# Altium schematic symbol library WE-PPTI.SchLib: 100 symbols (part 1 of 2)
Pins are listed as number, name and electrical type; pins without a type are passive.

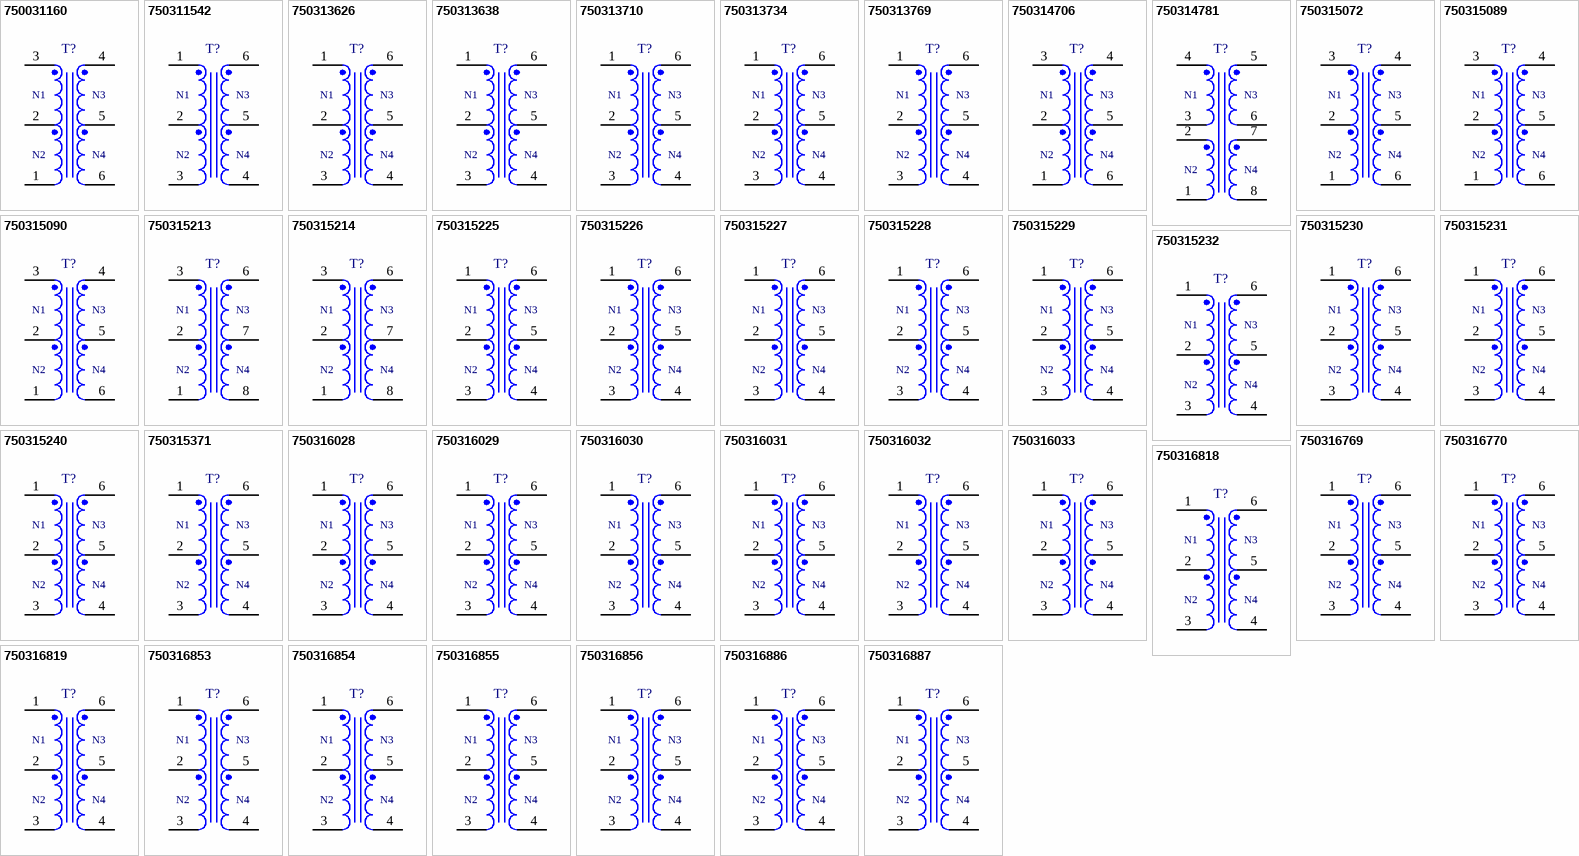
[diagram p0: symbols 750031160 to 750316887]

## 750031160
designator T?  (value not drawn)
WE-PPTI Push-Pull Transformer, SMT, size EE5, 5Vin, 12Vout, 0.35Aout; Manufacturer: Wurth Elektronik; Inductance: 500uH; Input Voltage: 5V (DC); Insulation Test Voltage: 1000V (AC); Output Voltage: 12V (DC); Switching Frequency: 100 - 500kHz; Turns Ratio: 1:2.7; Output Current: 0.35A; Type of Insulation: Functional; Voltage-Time: 9Vus; Manufacturer Part Number: 750031160; Category: Transformers For DC-DC Converter; Match Code: WE-PPTI; ComponentLink1Description: Website Link; ComponentLink1URL: https://www.we-online.com; ComponentLink2Description: Datasheet Link; ComponentLink2URL: https://www.we-online.com/components/products/datasheet/750031160; Mount: Surface Mount; Operating Temperature Min: -40degC; Operating Temperature Max: 125degC; Packaging: Tape and Reel; Case/Size Code: EE5; Length: 8.76mm; Width: 6.1mm; Height: 6.35mm
footprint WE-PPTI_EE5
pins: 1, 2, 3, 4, 5, 6
text: N1; N3; N2; N4

## 750311542
designator T?  (value not drawn)
WE-PPTI Push-Pull Transformer, SMT, size EP5, 5Vin, 12Vout, 0.45Aout; Manufacturer: Wurth Elektronik; Inductance: 500uH; Input Voltage: 5V (DC); Insulation Test Voltage: 1000V (AC); Output Voltage: 12V (DC); Switching Frequency: 100 - 500kHz; Turns Ratio: 1:2.73; Output Current: 0.45A; Type of Insulation: Functional; Voltage-Time: 9Vus; Manufacturer Part Number: 750311542; Category: Transformers For DC-DC Converter; Match Code: WE-PPTI; ComponentLink1Description: Website Link; ComponentLink1URL: https://www.we-online.com; ComponentLink2Description: Datasheet Link; ComponentLink2URL: https://www.we-online.com/components/products/datasheet/750311542; Mount: Surface Mount; Operating Temperature Min: -40degC; Operating Temperature Max: 125degC; Packaging: Tape and Reel; Case/Size Code: EP5; Length: 8.26mm; Width: 6.6mm; Height: 5.59mm
footprint WE-PPTI_EP5_L8.26W6.6H5.59
pins: 1, 2, 3, 4, 5, 6
text: N1; N3; N2; N4

## 750313626
designator T?  (value not drawn)
WE-PPTI Push-Pull Transformer, SMT, size 1209, 3.3Vin, 5Vout, 0.5Aout; Manufacturer: Wurth Elektronik; Case/Size Code: 1209; Inductance: 340uH; Input Voltage: 3.3V (DC); Insulation Test Voltage: 5000V (AC); Output Voltage: 5V (DC); Switching Frequency: 250 - 550kHz; Turns Ratio: 1:2; Output Current: 0.5A; Type of Insulation: Reinforced; Voltage-Time: 10Vus; Manufacturer Part Number: 750313626; Category: Transformers For DC-DC Converter; Match Code: WE-PPTI; ComponentLink1Description: Website Link; ComponentLink1URL: https://www.we-online.com; ComponentLink2Description: Datasheet Link; ComponentLink2URL: https://www.we-online.com/components/products/datasheet/750313626; Mount: Surface Mount; Operating Temperature Min: -40degC; Operating Temperature Max: 125degC; Packaging: Tape and Reel; Length: 12.7mm; Width: 9.14mm; Height: 7.62mm
footprint WE-PPTI_1209
pins: 1, 2, 3, 4, 5, 6
text: N1; N3; N2; N4

## 750313638
designator T?  (value not drawn)
WE-PPTI Push-Pull Transformer, SMT, size 1209, 5Vin, 5Vout, 0.65Aout; Manufacturer: Wurth Elektronik; Case/Size Code: 1209; Inductance: 340uH; Input Voltage: 5V (DC); Insulation Test Voltage: 5000V (AC); Switching Frequency: 300 - 620kHz; Turns Ratio: 1:1.3; Output Current: 0.65A; Type of Insulation: Reinforced; Voltage-Time: 10Vus; Manufacturer Part Number: 750313638; Category: Transformers For DC-DC Converter; Match Code: WE-PPTI; ComponentLink1Description: Website Link; ComponentLink1URL: https://www.we-online.com; ComponentLink2Description: Datasheet Link; ComponentLink2URL: https://www.we-online.com/components/products/datasheet/750313638; Mount: Surface Mount; Operating Temperature Min: -40degC; Operating Temperature Max: 125degC; Packaging: Tape and Reel; Length: 12.7mm; Width: 9.14mm; Height: 7.62mm; Output Voltage: 5V (DC)
footprint WE-PPTI_1209
pins: 1, 2, 3, 4, 5, 6
text: N1; N3; N2; N4

## 750313710
designator T?  (value not drawn)
WE-PPTI Push-Pull Transformer, SMT, size 1006, 5Vin, 3.3Vout, 0.65Aout; Manufacturer: Wurth Elektronik; Case/Size Code: 1006; Inductance: 475uH; Input Voltage: 5V (DC); Insulation Test Voltage: 2500V (AC); Output Voltage: 3.3V (DC); Switching Frequency: 250 - 620kHz; Turns Ratio: 1:1.23; Output Current: 0.65A; Type of Insulation: Functional; Voltage-Time: 11Vus; Manufacturer Part Number: 750313710; Category: Transformers For DC-DC Converter; Match Code: WE-PPTI; ComponentLink1Description: Website Link; ComponentLink1URL: https://www.we-online.com; ComponentLink2Description: Datasheet Link; ComponentLink2URL: https://www.we-online.com/components/products/datasheet/750313710; Mount: Surface Mount; Operating Temperature Min: -40degC; Operating Temperature Max: 125degC; Packaging: Tape and Reel; Length: 10.2mm; Width: 6.73mm; Height: 4.19mm
footprint WE-PPTI_1006_L10.2W6.73H4.19
pins: 1, 2, 3, 4, 5, 6
text: N1; N3; N2; N4

## 750313734
designator T?  (value not drawn)
WE-PPTI Push-Pull Transformer, SMT, size 1209, 5Vin, 5Vout, 0.8Aout; Manufacturer: Wurth Elektronik; Case/Size Code: 1209; Inductance: 340uH; Input Voltage: 5V (DC); Insulation Test Voltage: 5000V (AC); Switching Frequency: 300 - 620kHz; Turns Ratio: 1:1.1; Output Current: 0.8A; Type of Insulation: Reinforced; Voltage-Time: 10Vus; Manufacturer Part Number: 750313734; Category: Transformers For DC-DC Converter; Match Code: WE-PPTI; ComponentLink1Description: Website Link; ComponentLink1URL: https://www.we-online.com; ComponentLink2Description: Datasheet Link; ComponentLink2URL: https://www.we-online.com/components/products/datasheet/750313734; Mount: Surface Mount; Operating Temperature Min: -40degC; Operating Temperature Max: 125degC; Packaging: Tape and Reel; Length: 12.7mm; Width: 9.14mm; Height: 7.62mm; Output Voltage: 5V (DC)
footprint WE-PPTI_1209
pins: 1, 2, 3, 4, 5, 6
text: N1; N3; N2; N4

## 750313769
designator T?  (value not drawn)
WE-PPTI Push-Pull Transformer, SMT, size 1209, 3.3Vin, 5Vout, 0.6Aout; Manufacturer: Wurth Elektronik; Case/Size Code: 1209; Inductance: 340uH; Input Voltage: 3.3V (DC); Insulation Test Voltage: 5000V (AC); Output Voltage: 5V (DC); Switching Frequency: 250 - 550kHz; Turns Ratio: 1:1.7; Output Current: 0.6A; Type of Insulation: Reinforced; Voltage-Time: 10Vus; Manufacturer Part Number: 750313769; Category: Transformers For DC-DC Converter; Match Code: WE-PPTI; ComponentLink1Description: Website Link; ComponentLink1URL: https://www.we-online.com; ComponentLink2Description: Datasheet Link; ComponentLink2URL: https://www.we-online.com/components/products/datasheet/750313769; Mount: Surface Mount; Operating Temperature Min: -40degC; Operating Temperature Max: 125degC; Packaging: Tape and Reel; Length: 12.7mm; Width: 9.14mm; Height: 7.62mm
footprint WE-PPTI_1209
pins: 1, 2, 3, 4, 5, 6
text: N1; N3; N2; N4

## 750314706
designator T?  (value not drawn)
WE-PPTI Push-Pull Transformer, SMT, size EP5, 3.3Vin, 5Vout, 0.3Aout; Manufacturer: Wurth Elektronik; Inductance: 250uH; Input Voltage: 3.3V (DC); Insulation Test Voltage: 2500V (AC); Output Voltage: 5V (DC); Switching Frequency: 100 - 500kHz; Turns Ratio: 1:1.8; Output Current: 0.3A; Type of Insulation: Functional; Voltage-Time: 27Vus; Manufacturer Part Number: 750314706; Category: Transformers For DC-DC Converter; Match Code: WE-PPTI; ComponentLink1Description: Website Link; ComponentLink1URL: https://www.we-online.com; ComponentLink2Description: Datasheet Link; ComponentLink2URL: https://www.we-online.com/components/products/datasheet/750314706; Mount: Surface Mount; Operating Temperature Min: -40degC; Operating Temperature Max: 125degC; Packaging: Tape and Reel; Case/Size Code: EP5; Length: 9.1mm; Width: 7mm; Height: 7.8mm
footprint WE-PPTI_EP5_L9.1W7H7.8
pins: 1, 2, 3, 4, 5, 6
text: N1; N3; N2; N4

## 750314781
designator T?  (value not drawn)
WE-PPTI Push-Pull Transformer, SMT, size EP7, 10 - 15Vin, 12Vout, 0.5Aout; Manufacturer: Wurth Elektronik; Inductance: 160uH; Input Voltage: 10 - 15V (DC); Insulation Test Voltage: 1000V (AC); Output Voltage: 12V (DC); Switching Frequency: 1000 - 1500kHz; Turns Ratio: 1:2; Output Current: 0.5A; Type of Insulation: Functional; Voltage-Time: 68Vus; Manufacturer Part Number: 750314781; Category: Transformers For DC-DC Converter; Match Code: WE-PPTI; ComponentLink1Description: Website Link; ComponentLink1URL: https://www.we-online.com; ComponentLink2Description: Datasheet Link; ComponentLink2URL: https://www.we-online.com/components/products/datasheet/750314781; Mount: Surface Mount; Operating Temperature Min: -40degC; Operating Temperature Max: 125degC; Packaging: Tape and Reel; Case/Size Code: EP7; Length: 9.14mm; Width: 9.78mm; Height: 10.54mm
footprint WE-PPTI_EP7
pins: 1, 2, 3, 4, 5, 6, 7, 8
text: N1; N3; N2; N4

## 750315072
designator T?  (value not drawn)
WE-PPTI Push-Pull Transformer, SMT, size EP5, 5Vin, 3.3Vout, 0.6Aout; Manufacturer: Wurth Elektronik; Inductance: 635uH; Input Voltage: 5V (DC); Insulation Test Voltage: 2500V (AC); Output Voltage: 3.3V (DC); Switching Frequency: 100 - 500kHz; Turns Ratio: 1.53:1; Output Current: 0.6A; Type of Insulation: Functional; Voltage-Time: 42Vus; Manufacturer Part Number: 750315072; Category: Transformers For DC-DC Converter; Match Code: WE-PPTI; ComponentLink1Description: Website Link; ComponentLink1URL: https://www.we-online.com; ComponentLink2Description: Datasheet Link; ComponentLink2URL: https://www.we-online.com/components/products/datasheet/750315072; Mount: Surface Mount; Operating Temperature Min: -40degC; Operating Temperature Max: 125degC; Packaging: Tape and Reel; Case/Size Code: EP5; Length: 9.1mm; Width: 7mm; Height: 7.8mm
footprint WE-PPTI_EP5_L9.1W7H7.8
pins: 1, 2, 3, 4, 5, 6
text: N1; N3; N2; N4

## 750315089
designator T?  (value not drawn)
WE-PPTI Push-Pull Transformer, SMT, size EP5, 5Vin, 5Vout, 0.33Aout; Manufacturer: Wurth Elektronik; Inductance: 635uH; Input Voltage: 5V (DC); Insulation Test Voltage: 2500V (AC); Switching Frequency: 100 - 500kHz; Turns Ratio: 1:1; Output Current: 0.33A; Type of Insulation: Functional; Voltage-Time: 42Vus; Manufacturer Part Number: 750315089; Category: Transformers For DC-DC Converter; Match Code: WE-PPTI; ComponentLink1Description: Website Link; ComponentLink1URL: https://www.we-online.com; ComponentLink2Description: Datasheet Link; ComponentLink2URL: https://www.we-online.com/components/products/datasheet/750315089; Mount: Surface Mount; Operating Temperature Min: -40degC; Operating Temperature Max: 125degC; Packaging: Tape and Reel; Case/Size Code: EP5; Length: 9.1mm; Width: 7mm; Height: 7.8mm; Output Voltage: 5V (DC)
footprint WE-PPTI_EP5_L9.1W7H7.8
pins: 1, 2, 3, 4, 5, 6
text: N1; N3; N2; N4

## 750315090
designator T?  (value not drawn)
WE-PPTI Push-Pull Transformer, SMT, size EP5, 3.3Vin, 3.3Vout, 0.6Aout; Manufacturer: Wurth Elektronik; Inductance: 270uH; Input Voltage: 3.3V (DC); Insulation Test Voltage: 2500V (AC); Switching Frequency: 100 - 500kHz; Turns Ratio: 1:1; Output Current: 0.6A; Type of Insulation: Functional; Voltage-Time: 27Vus; Manufacturer Part Number: 750315090; Category: Transformers For DC-DC Converter; Match Code: WE-PPTI; ComponentLink1Description: Website Link; ComponentLink1URL: https://www.we-online.com; ComponentLink2Description: Datasheet Link; ComponentLink2URL: https://www.we-online.com/components/products/datasheet/750315090; Mount: Surface Mount; Operating Temperature Min: -40degC; Operating Temperature Max: 125degC; Packaging: Tape and Reel; Case/Size Code: EP5; Length: 9.1mm; Width: 7mm; Height: 7.8mm; Output Voltage: 3.3V (DC)
footprint WE-PPTI_EP5_L9.1W7H7.8
pins: 1, 2, 3, 4, 5, 6
text: N1; N3; N2; N4

## 750315213
designator T?  (value not drawn)
WE-PPTI Push-Pull Transformer, SMT, size EP7, 24Vin, 24Vout, 0.6Aout; Manufacturer: Wurth Elektronik; Inductance: 563uH; Input Voltage: 24V (DC); Insulation Test Voltage: 3125V (AC); Switching Frequency: 150 - 500kHz; Turns Ratio: 1:1; Output Current: 0.6A; Type of Insulation: Functional; Voltage-Time: 100Vus; Manufacturer Part Number: 750315213; Category: Transformers For DC-DC Converter; Match Code: WE-PPTI; ComponentLink1Description: Website Link; ComponentLink1URL: https://www.we-online.com; ComponentLink2Description: Datasheet Link; ComponentLink2URL: https://www.we-online.com/components/products/datasheet/750315213; Mount: Surface Mount; Operating Temperature Min: -40degC; Operating Temperature Max: 125degC; Packaging: Tape and Reel; Case/Size Code: EP7; Length: 9.14mm; Width: 9.78mm; Height: 10.54mm; Output Voltage: 24V (DC)
footprint WE-PPTI_EP7
pins: 1, 2, 3, 6, 7, 8
text: N1; N3; N2; N4

## 750315214
designator T?  (value not drawn)
WE-PPTI Push-Pull Transformer, SMT, size EP7, 24Vin, 5Vout, 2Aout; Manufacturer: Wurth Elektronik; Inductance: 563uH; Input Voltage: 24V (DC); Insulation Test Voltage: 3125V (AC); Output Voltage: 5V (DC); Switching Frequency: 150 - 500kHz; Turns Ratio: 4:1; Output Current: 2A; Type of Insulation: Functional; Voltage-Time: 100Vus; Manufacturer Part Number: 750315214; Category: Transformers For DC-DC Converter; Match Code: WE-PPTI; ComponentLink1Description: Website Link; ComponentLink1URL: https://www.we-online.com; ComponentLink2Description: Datasheet Link; ComponentLink2URL: https://www.we-online.com/components/products/datasheet/750315214; Mount: Surface Mount; Operating Temperature Min: -40degC; Operating Temperature Max: 125degC; Packaging: Tape and Reel; Case/Size Code: EP7; Length: 9.14mm; Width: 9.78mm; Height: 10.54mm
footprint WE-PPTI_EP7
pins: 1, 2, 3, 6, 7, 8
text: N1; N3; N2; N4

## 750315225
designator T?  (value not drawn)
WE-PPTI Push-Pull Transformer, SMT, size 1006, 3.3Vin, 3.6Vout, 0.9Aout; Manufacturer: Wurth Elektronik; Case/Size Code: 1006; Inductance: 388uH; Input Voltage: 3.3V (DC); Insulation Test Voltage: 2750V (AC); Output Voltage: 3.6V (DC); Switching Frequency: 350 - 550kHz; Turns Ratio: 1:1.1; Output Current: 0.9A; Type of Insulation: Functional; Voltage-Time: 8.5Vus; Manufacturer Part Number: 750315225; Category: Transformers For DC-DC Converter; Match Code: WE-PPTI; ComponentLink1Description: Website Link; ComponentLink1URL: https://www.we-online.com; ComponentLink2Description: Datasheet Link; ComponentLink2URL: https://www.we-online.com/components/products/datasheet/750315225; Mount: Surface Mount; Operating Temperature Min: -40degC; Operating Temperature Max: 125degC; Packaging: Tape and Reel; Length: 10.2mm; Width: 6.73mm; Height: 4.19mm
footprint WE-PPTI_1006_L10.2W6.73H4.19
pins: 1, 2, 3, 4, 5, 6
text: N1; N3; N2; N4

## 750315226
designator T?  (value not drawn)
WE-PPTI Push-Pull Transformer, SMT, size 1006, 3.3Vin, 4.3Vout, 0.85Aout; Manufacturer: Wurth Elektronik; Case/Size Code: 1006; Inductance: 388uH; Input Voltage: 3.3V (DC); Insulation Test Voltage: 2750V (AC); Output Voltage: 4.3V (DC); Switching Frequency: 350 - 550kHz; Turns Ratio: 1:1.3; Output Current: 0.85A; Type of Insulation: Functional; Voltage-Time: 8.5Vus; Manufacturer Part Number: 750315226; Category: Transformers For DC-DC Converter; Match Code: WE-PPTI; ComponentLink1Description: Website Link; ComponentLink1URL: https://www.we-online.com; ComponentLink2Description: Datasheet Link; ComponentLink2URL: https://www.we-online.com/components/products/datasheet/750315226; Mount: Surface Mount; Operating Temperature Min: -40degC; Operating Temperature Max: 125degC; Packaging: Tape and Reel; Length: 10.2mm; Width: 6.73mm; Height: 4.19mm
footprint WE-PPTI_1006_L10.2W6.73H4.19
pins: 1, 2, 3, 4, 5, 6
text: N1; N3; N2; N4

## 750315227
designator T?  (value not drawn)
WE-PPTI Push-Pull Transformer, SMT, size 1006, 3.3Vin, 5.6Vout, 0.7Aout; Manufacturer: Wurth Elektronik; Case/Size Code: 1006; Inductance: 388uH; Input Voltage: 3.3V (DC); Insulation Test Voltage: 2750V (AC); Output Voltage: 5.6V (DC); Switching Frequency: 350 - 550kHz; Turns Ratio: 1:1.7; Output Current: 0.7A; Type of Insulation: Functional; Voltage-Time: 8.5Vus; Manufacturer Part Number: 750315227; Category: Transformers For DC-DC Converter; Match Code: WE-PPTI; ComponentLink1Description: Website Link; ComponentLink1URL: https://www.we-online.com; ComponentLink2Description: Datasheet Link; ComponentLink2URL: https://www.we-online.com/components/products/datasheet/750315227; Mount: Surface Mount; Operating Temperature Min: -40degC; Operating Temperature Max: 125degC; Packaging: Tape and Reel; Length: 10.2mm; Width: 6.73mm; Height: 4.19mm
footprint WE-PPTI_1006_L10.2W6.73H4.19
pins: 1, 2, 3, 4, 5, 6
text: N1; N3; N2; N4

## 750315228
designator T?  (value not drawn)
WE-PPTI Push-Pull Transformer, SMT, size 1006, 3.3Vin, 6.6Vout, 0.5Aout; Manufacturer: Wurth Elektronik; Case/Size Code: 1006; Inductance: 388uH; Input Voltage: 3.3V (DC); Insulation Test Voltage: 2750V (AC); Output Voltage: 6.6V (DC); Switching Frequency: 350 - 550kHz; Turns Ratio: 1:2; Output Current: 0.5A; Type of Insulation: Functional; Voltage-Time: 8.5Vus; Manufacturer Part Number: 750315228; Category: Transformers For DC-DC Converter; Match Code: WE-PPTI; ComponentLink1Description: Website Link; ComponentLink1URL: https://www.we-online.com; ComponentLink2Description: Datasheet Link; ComponentLink2URL: https://www.we-online.com/components/products/datasheet/750315228; Mount: Surface Mount; Operating Temperature Min: -40degC; Operating Temperature Max: 125degC; Packaging: Tape and Reel; Length: 10.2mm; Width: 6.73mm; Height: 4.19mm
footprint WE-PPTI_1006_L10.2W6.73H4.19
pins: 1, 2, 3, 4, 5, 6
text: N1; N3; N2; N4

## 750315229
designator T?  (value not drawn)
WE-PPTI Push-Pull Transformer, SMT, size 1209, 5Vin, 5.8Vout, 0.9Aout; Manufacturer: Wurth Elektronik; Case/Size Code: 1209; Inductance: 384uH; Input Voltage: 5V (DC); Insulation Test Voltage: 5000V (AC); Output Voltage: 5.8V (DC); Switching Frequency: 350 - 550kHz; Turns Ratio: 1:1.1; Output Current: 0.9A; Type of Insulation: Reinforced; Voltage-Time: 8.8Vus; Manufacturer Part Number: 750315229; Category: Transformers For DC-DC Converter; Match Code: WE-PPTI; ComponentLink1Description: Website Link; ComponentLink1URL: https://www.we-online.com; ComponentLink2Description: Datasheet Link; ComponentLink2URL: https://www.we-online.com/components/products/datasheet/750315229; Mount: Surface Mount; Operating Temperature Min: -40degC; Operating Temperature Max: 125degC; Packaging: Tape and Reel; Length: 12.7mm; Width: 9.14mm; Height: 7.62mm
footprint WE-PPTI_1209
pins: 1, 2, 3, 4, 5, 6
text: N1; N3; N2; N4

## 750315230
designator T?  (value not drawn)
WE-PPTI Push-Pull Transformer, SMT, size 1209, 5Vin, 6.9Vout, 0.75Aout; Manufacturer: Wurth Elektronik; Case/Size Code: 1209; Inductance: 384uH; Input Voltage: 5V (DC); Insulation Test Voltage: 5000V (AC); Output Voltage: 6.9V (DC); Switching Frequency: 350 - 550kHz; Turns Ratio: 1:1.4; Output Current: 0.75A; Type of Insulation: Reinforced; Voltage-Time: 8.8Vus; Manufacturer Part Number: 750315230; Category: Transformers For DC-DC Converter; Match Code: WE-PPTI; ComponentLink1Description: Website Link; ComponentLink1URL: https://www.we-online.com; ComponentLink2Description: Datasheet Link; ComponentLink2URL: https://www.we-online.com/components/products/datasheet/750315230; Mount: Surface Mount; Operating Temperature Min: -40degC; Operating Temperature Max: 125degC; Packaging: Tape and Reel; Length: 12.7mm; Width: 9.14mm; Height: 7.62mm
footprint WE-PPTI_1209
pins: 1, 2, 3, 4, 5, 6
text: N1; N3; N2; N4

## 750315231
designator T?  (value not drawn)
WE-PPTI Push-Pull Transformer, SMT, size 1209, 3.3Vin, 5.4Vout, 0.55Aout; Manufacturer: Wurth Elektronik; Case/Size Code: 1209; Inductance: 384uH; Input Voltage: 3.3V (DC); Insulation Test Voltage: 5000V (AC); Output Voltage: 5.4V (DC); Switching Frequency: 350 - 550kHz; Turns Ratio: 1:1.6; Output Current: 0.55A; Type of Insulation: Reinforced; Voltage-Time: 8.8Vus; Manufacturer Part Number: 750315231; Category: Transformers For DC-DC Converter; Match Code: WE-PPTI; ComponentLink1Description: Website Link; ComponentLink1URL: https://www.we-online.com; ComponentLink2Description: Datasheet Link; ComponentLink2URL: https://www.we-online.com/components/products/datasheet/750315231; Mount: Surface Mount; Operating Temperature Min: -40degC; Operating Temperature Max: 125degC; Packaging: Tape and Reel; Length: 12.7mm; Width: 9.14mm; Height: 7.62mm
footprint WE-PPTI_1209
pins: 1, 2, 3, 4, 5, 6
text: N1; N3; N2; N4

## 750315232
designator T?  (value not drawn)
WE-PPTI Push-Pull Transformer, SMT, size 1209, 3.3Vin, 6.6Vout, 0.45Aout; Manufacturer: Wurth Elektronik; Case/Size Code: 1209; Inductance: 384uH; Input Voltage: 3.3V (DC); Insulation Test Voltage: 5000V (AC); Output Voltage: 6.6V (DC); Switching Frequency: 350 - 550kHz; Turns Ratio: 1:2; Output Current: 0.45A; Type of Insulation: Reinforced; Voltage-Time: 8.8Vus; Manufacturer Part Number: 750315232; Category: Transformers For DC-DC Converter; Match Code: WE-PPTI; ComponentLink1Description: Website Link; ComponentLink1URL: https://www.we-online.com; ComponentLink2Description: Datasheet Link; ComponentLink2URL: https://www.we-online.com/components/products/datasheet/750315232; Mount: Surface Mount; Operating Temperature Min: -40degC; Operating Temperature Max: 125degC; Packaging: Tape and Reel; Length: 12.7mm; Width: 9.14mm; Height: 7.62mm
footprint WE-PPTI_1209
pins: 1, 2, 3, 4, 5, 6
text: N1; N3; N2; N4

## 750315240
designator T?  (value not drawn)
WE-PPTI Push-Pull Transformer, SMT, size 1512, 5Vin, 5Vout, 1Aout; Manufacturer: Wurth Elektronik; Case/Size Code: 1512; Inductance: 440uH; Input Voltage: 5V (DC); Insulation Test Voltage: 5000V (AC); Switching Frequency: 150 - 800kHz; Turns Ratio: 1:1.1; Output Current: 1A; Type of Insulation: Reinforced; Voltage-Time: 46Vus; Manufacturer Part Number: 750315240; Category: Transformers For DC-DC Converter; Match Code: WE-PPTI; ComponentLink1Description: Website Link; ComponentLink1URL: https://www.we-online.com; ComponentLink2Description: Datasheet Link; ComponentLink2URL: https://www.we-online.com/components/products/datasheet/750315240; Mount: Surface Mount; Operating Temperature Min: -40degC; Operating Temperature Max: 125degC; Packaging: Tape and Reel; Length: 15.41mm; Width: 12.32mm; Height: 11.89mm; Output Voltage: 5V (DC)
footprint WE-PPTI_1512
pins: 1, 2, 3, 4, 5, 6
text: N1; N3; N2; N4

## 750315371
designator T?  (value not drawn)
WE-PPTI Push-Pull Transformer, SMT, size 1208, 4.5 - 5.5Vin, 5Vout, 1Aout; Manufacturer: Wurth Elektronik; Case/Size Code: 1208; Inductance: 72uH; Input Voltage: 4.5 - 5.5V (DC); Insulation Test Voltage: 2500V (AC); Output Voltage: 5V (DC); Switching Frequency: 400 - 700kHz; Turns Ratio: 1:1.1; Output Current: 1A; Type of Insulation: Functional; Voltage-Time: 8.6Vus; Manufacturer Part Number: 750315371; Category: Transformers For DC-DC Converter; Match Code: WE-PPTI; ComponentLink1Description: Website Link; ComponentLink1URL: https://www.we-online.com; ComponentLink2Description: Datasheet Link; ComponentLink2URL: https://www.we-online.com/components/products/datasheet/750315371; Mount: Surface Mount; Operating Temperature Min: -40degC; Operating Temperature Max: 125degC; Packaging: Tape and Reel; Length: 12.6mm; Width: 8.3mm; Height: 4.1mm
footprint WE-PPTI_1208
pins: 1, 2, 3, 4, 5, 6
text: N1; N3; N2; N4

## 750316028
designator T?  (value not drawn)
WE-PPTI Push-Pull Transformer, SMT, size 1208, 3.3Vin, 3.3Vout, 0.8Aout; Manufacturer: Wurth Elektronik; Case/Size Code: 1208; Inductance: 86uH; Input Voltage: 3.3V (DC); Insulation Test Voltage: 2500V (AC); Switching Frequency: 400 - 700kHz; Turns Ratio: 1:1.75; Output Current: 0.8A; Type of Insulation: Functional; Voltage-Time: 13Vus; Manufacturer Part Number: 750316028; Category: Transformers For DC-DC Converter; Match Code: WE-PPTI; ComponentLink1Description: Website Link; ComponentLink1URL: https://www.we-online.com; ComponentLink2Description: Datasheet Link; ComponentLink2URL: https://www.we-online.com/components/products/datasheet/750316028; Mount: Surface Mount; Operating Temperature Min: -40degC; Operating Temperature Max: 125degC; Packaging: Tape and Reel; Length: 12.6mm; Width: 8.3mm; Height: 4.1mm; Output Voltage: 3.3V (DC)
footprint WE-PPTI_1208
pins: 1, 2, 3, 4, 5, 6
text: N1; N3; N2; N4

## 750316029
designator T?  (value not drawn)
WE-PPTI Push-Pull Transformer, SMT, size 1208, 3.3Vin, 5Vout, 0.6Aout; Manufacturer: Wurth Elektronik; Case/Size Code: 1208; Inductance: 72uH; Input Voltage: 3.3V (DC); Insulation Test Voltage: 2500V (AC); Output Voltage: 5V (DC); Switching Frequency: 400 - 700kHz; Turns Ratio: 1:2.1; Output Current: 0.6A; Type of Insulation: Functional; Voltage-Time: 8.9Vus; Manufacturer Part Number: 750316029; Category: Transformers For DC-DC Converter; Match Code: WE-PPTI; ComponentLink1Description: Website Link; ComponentLink1URL: https://www.we-online.com; ComponentLink2Description: Datasheet Link; ComponentLink2URL: https://www.we-online.com/components/products/datasheet/750316029; Mount: Surface Mount; Operating Temperature Min: -40degC; Operating Temperature Max: 125degC; Packaging: Tape and Reel; Length: 12.6mm; Width: 8.3mm; Height: 4.1mm
footprint WE-PPTI_1208
pins: 1, 2, 3, 4, 5, 6
text: N1; N3; N2; N4

## 750316030
designator T?  (value not drawn)
WE-PPTI Push-Pull Transformer, SMT, size 1208, 4.5 - 5.5Vin, 3.3Vout, 1.2Aout; Manufacturer: Wurth Elektronik; Case/Size Code: 1208; Inductance: 94uH; Input Voltage: 4.5 - 5.5V (DC); Insulation Test Voltage: 2500V (AC); Output Voltage: 3.3V (DC); Switching Frequency: 400 - 700kHz; Turns Ratio: 1.3:1; Output Current: 1.2A; Type of Insulation: Functional; Voltage-Time: 10.2Vus; Manufacturer Part Number: 750316030; Category: Transformers For DC-DC Converter; Match Code: WE-PPTI; ComponentLink1Description: Website Link; ComponentLink1URL: https://www.we-online.com; ComponentLink2Description: Datasheet Link; ComponentLink2URL: https://www.we-online.com/components/products/datasheet/750316030; Mount: Surface Mount; Operating Temperature Min: -40degC; Operating Temperature Max: 125degC; Packaging: Tape and Reel; Length: 12.6mm; Width: 8.3mm; Height: 4.1mm
footprint WE-PPTI_1208
pins: 1, 2, 3, 4, 5, 6
text: N1; N3; N2; N4

## 750316031
designator T?  (value not drawn)
WE-PPTI Push-Pull Transformer, SMT, size 1512, 3.3Vin, 3.3Vout, 0.9Aout; Manufacturer: Wurth Elektronik; Case/Size Code: 1512; Inductance: 370uH; Input Voltage: 3.3V (DC); Insulation Test Voltage: 5000V (AC); Switching Frequency: 150 - 700kHz; Turns Ratio: 1:1.75; Output Current: 0.9A; Type of Insulation: Reinforced; Voltage-Time: 40Vus; Manufacturer Part Number: 750316031; Category: Transformers For DC-DC Converter; Match Code: WE-PPTI; ComponentLink1Description: Website Link; ComponentLink1URL: https://www.we-online.com; ComponentLink2Description: Datasheet Link; ComponentLink2URL: https://www.we-online.com/components/products/datasheet/750316031; Mount: Surface Mount; Operating Temperature Min: -40degC; Operating Temperature Max: 125degC; Packaging: Tape and Reel; Length: 15.41mm; Width: 12.32mm; Height: 11.89mm; Output Voltage: 3.3V (DC)
footprint WE-PPTI_1512
pins: 1, 2, 3, 4, 5, 6
text: N1; N3; N2; N4

## 750316032
designator T?  (value not drawn)
WE-PPTI Push-Pull Transformer, SMT, size 1512, 3.3Vin, 5Vout, 0.9Aout; Manufacturer: Wurth Elektronik; Case/Size Code: 1512; Inductance: 370uH; Input Voltage: 3.3V (DC); Insulation Test Voltage: 5000V (AC); Output Voltage: 5V (DC); Switching Frequency: 150 - 700kHz; Turns Ratio: 1:2; Output Current: 0.9A; Type of Insulation: Reinforced; Voltage-Time: 40Vus; Manufacturer Part Number: 750316032; Category: Transformers For DC-DC Converter; Match Code: WE-PPTI; ComponentLink1Description: Website Link; ComponentLink1URL: https://www.we-online.com; ComponentLink2Description: Datasheet Link; ComponentLink2URL: https://www.we-online.com/components/products/datasheet/750316032; Mount: Surface Mount; Operating Temperature Min: -40degC; Operating Temperature Max: 125degC; Packaging: Tape and Reel; Length: 15.41mm; Width: 12.32mm; Height: 11.89mm
footprint WE-PPTI_1512
pins: 1, 2, 3, 4, 5, 6
text: N1; N3; N2; N4

## 750316033
designator T?  (value not drawn)
WE-PPTI Push-Pull Transformer, SMT, size 1512, 4.5 - 5Vin, 3.3Vout, 1Aout; Manufacturer: Wurth Elektronik; Case/Size Code: 1512; Inductance: 370uH; Input Voltage: 4.5 - 5V (DC); Insulation Test Voltage: 5000V (AC); Output Voltage: 3.3V (DC); Switching Frequency: 150 - 800kHz; Turns Ratio: 1.3:1; Output Current: 1A; Type of Insulation: Reinforced; Voltage-Time: 40Vus; Manufacturer Part Number: 750316033; Category: Transformers For DC-DC Converter; Match Code: WE-PPTI; ComponentLink1Description: Website Link; ComponentLink1URL: https://www.we-online.com; ComponentLink2Description: Datasheet Link; ComponentLink2URL: https://www.we-online.com/components/products/datasheet/750316033; Mount: Surface Mount; Operating Temperature Min: -40degC; Operating Temperature Max: 125degC; Packaging: Tape and Reel; Length: 15.41mm; Width: 12.32mm; Height: 11.89mm
footprint WE-PPTI_1512
pins: 1, 2, 3, 4, 5, 6
text: N1; N3; N2; N4

## 750316769
designator T?  (value not drawn)
WE-PPTI Push-Pull Transformer, SMT, size 1006, 5Vin, 15Vout, 0.25Aout; Manufacturer: Wurth Elektronik; Case/Size Code: 1006; Inductance: 350uH; Input Voltage: 5V (DC); Insulation Test Voltage: 2500V (AC); Output Voltage: 15V (DC); Switching Frequency: 300 - 620kHz; Turns Ratio: 1:3.45; Output Current: 0.25A; Type of Insulation: Functional; Voltage-Time: 9Vus; Manufacturer Part Number: 750316769; Category: Transformers For DC-DC Converter; Match Code: WE-PPTI; ComponentLink1Description: Website Link; ComponentLink1URL: https://www.we-online.com; ComponentLink2Description: Datasheet Link; ComponentLink2URL: https://www.we-online.com/components/products/datasheet/750316769; Mount: Surface Mount; Operating Temperature Min: -40degC; Operating Temperature Max: 125degC; Packaging: Tape and Reel; Length: 10.2mm; Width: 6.73mm; Height: 4.19mm
footprint WE-PPTI_1006_L10.2W6.73H4.19
pins: 1, 2, 3, 4, 5, 6
text: N1; N3; N2; N4

## 750316770
designator T?  (value not drawn)
WE-PPTI Push-Pull Transformer, SMT, size 1006, 5Vin, 12Vout, 0.28Aout; Manufacturer: Wurth Elektronik; Case/Size Code: 1006; Inductance: 350uH; Input Voltage: 5V (DC); Insulation Test Voltage: 2500V (AC); Output Voltage: 12V (DC); Switching Frequency: 300 - 620kHz; Turns Ratio: 1:2.91; Output Current: 0.28A; Type of Insulation: Functional; Voltage-Time: 9Vus; Manufacturer Part Number: 750316770; Category: Transformers For DC-DC Converter; Match Code: WE-PPTI; ComponentLink1Description: Website Link; ComponentLink1URL: https://www.we-online.com; ComponentLink2Description: Datasheet Link; ComponentLink2URL: https://www.we-online.com/components/products/datasheet/750316770; Mount: Surface Mount; Operating Temperature Min: -40degC; Operating Temperature Max: 125degC; Packaging: Tape and Reel; Length: 10.2mm; Width: 6.73mm; Height: 4.19mm
footprint WE-PPTI_1006_L10.2W6.73H4.19
pins: 1, 2, 3, 4, 5, 6
text: N1; N3; N2; N4

## 750316818
designator T?  (value not drawn)
WE-PPTI Push-Pull Transformer, SMT, size 1208, 5Vin, 17Vout, 0.38Aout; Manufacturer: Wurth Elektronik; Case/Size Code: 1208; Inductance: 86uH; Input Voltage: 5V (DC); Insulation Test Voltage: 2500V (AC); Output Voltage: 17V (DC); Switching Frequency: 400 - 700kHz; Turns Ratio: 1:3.5; Output Current: 0.38A; Type of Insulation: Functional; Voltage-Time: 9Vus; Manufacturer Part Number: 750316818; Category: Transformers For DC-DC Converter; Match Code: WE-PPTI; ComponentLink1Description: Website Link; ComponentLink1URL: https://www.we-online.com; ComponentLink2Description: Datasheet Link; ComponentLink2URL: https://www.we-online.com/components/products/datasheet/750316818; Mount: Surface Mount; Operating Temperature Min: -40degC; Operating Temperature Max: 125degC; Packaging: Tape and Reel; Length: 12.6mm; Width: 8.3mm; Height: 4.1mm
footprint WE-PPTI_1208
pins: 1, 2, 3, 4, 5, 6
text: N1; N3; N2; N4

## 750316819
designator T?  (value not drawn)
WE-PPTI Push-Pull Transformer, SMT, size 1208, 5Vin, 12Vout, 0.46Aout; Manufacturer: Wurth Elektronik; Case/Size Code: 1208; Inductance: 86uH; Input Voltage: 5V (DC); Insulation Test Voltage: 2500V (AC); Output Voltage: 12V (DC); Switching Frequency: 400 - 700kHz; Turns Ratio: 1:2.88; Output Current: 0.46A; Type of Insulation: Functional; Voltage-Time: 9Vus; Manufacturer Part Number: 750316819; Category: Transformers For DC-DC Converter; Match Code: WE-PPTI; ComponentLink1Description: Website Link; ComponentLink1URL: https://www.we-online.com; ComponentLink2Description: Datasheet Link; ComponentLink2URL: https://www.we-online.com/components/products/datasheet/750316819; Mount: Surface Mount; Operating Temperature Min: -40degC; Operating Temperature Max: 125degC; Packaging: Tape and Reel; Length: 12.6mm; Width: 8.3mm; Height: 4.1mm
footprint WE-PPTI_1208
pins: 1, 2, 3, 4, 5, 6
text: N1; N3; N2; N4

## 750316853
designator T?  (value not drawn)
WE-PPTI Push-Pull Transformer, SMT, size 1408, 3.3Vin, 12Vout, 0.165Aout; Manufacturer: Wurth Elektronik; Case/Size Code: 1408; Inductance: 200uH; Input Voltage: 3.3V (DC); Insulation Test Voltage: 2500V (AC); Output Voltage: 12V (DC); Switching Frequency: 200 - 600kHz; Turns Ratio: 1:4; Output Current: 0.165A; Type of Insulation: Supplementary; Voltage-Time: 15Vus; Manufacturer Part Number: 750316853; Category: Transformers For DC-DC Converter; Match Code: WE-PPTI; ComponentLink1Description: Website Link; ComponentLink1URL: https://www.we-online.com; ComponentLink2Description: Datasheet Link; ComponentLink2URL: https://www.we-online.com/components/products/datasheet/750316853; Mount: Surface Mount; Operating Temperature Min: -40degC; Operating Temperature Max: 125degC; Packaging: Tape and Reel; Length: 14.75mm; Width: 8.3mm; Height: 4.2mm
footprint WE-PPTI_1408
pins: 1, 2, 3, 4, 5, 6
text: N1; N3; N2; N4

## 750316854
designator T?  (value not drawn)
WE-PPTI Push-Pull Transformer, SMT, size 1408, 5Vin, 12Vout, 0.38Aout; Manufacturer: Wurth Elektronik; Case/Size Code: 1408; Inductance: 200uH; Input Voltage: 5V (DC); Insulation Test Voltage: 2500V (AC); Output Voltage: 12V (DC); Switching Frequency: 200 - 600kHz; Turns Ratio: 1:2.5; Output Current: 0.38A; Type of Insulation: Supplementary; Voltage-Time: 15Vus; Manufacturer Part Number: 750316854; Category: Transformers For DC-DC Converter; Match Code: WE-PPTI; ComponentLink1Description: Website Link; ComponentLink1URL: https://www.we-online.com; ComponentLink2Description: Datasheet Link; ComponentLink2URL: https://www.we-online.com/components/products/datasheet/750316854; Mount: Surface Mount; Operating Temperature Min: -40degC; Operating Temperature Max: 125degC; Packaging: Tape and Reel; Length: 14.75mm; Width: 8.3mm; Height: 4.2mm
footprint WE-PPTI_1408
pins: 1, 2, 3, 4, 5, 6
text: N1; N3; N2; N4

## 750316855
designator T?  (value not drawn)
WE-PPTI Push-Pull Transformer, SMT, size 1408, 3.3Vin, 23Vout, 0.085Aout; Manufacturer: Wurth Elektronik; Case/Size Code: 1408; Inductance: 200uH; Input Voltage: 3.3V (DC); Insulation Test Voltage: 2500V (AC); Output Voltage: 23V (DC); Switching Frequency: 200 - 600kHz; Turns Ratio: 1:7; Output Current: 0.085A; Type of Insulation: Supplementary; Voltage-Time: 15Vus; Manufacturer Part Number: 750316855; Category: Transformers For DC-DC Converter; Match Code: WE-PPTI; ComponentLink1Description: Website Link; ComponentLink1URL: https://www.we-online.com; ComponentLink2Description: Datasheet Link; ComponentLink2URL: https://www.we-online.com/components/products/datasheet/750316855; Mount: Surface Mount; Operating Temperature Min: -40degC; Operating Temperature Max: 125degC; Packaging: Tape and Reel; Length: 14.75mm; Width: 8.3mm; Height: 4.2mm
footprint WE-PPTI_1408
pins: 1, 2, 3, 4, 5, 6
text: N1; N3; N2; N4

## 750316856
designator T?  (value not drawn)
WE-PPTI Push-Pull Transformer, SMT, size 1408, 5Vin, 23Vout, 0.18Aout; Manufacturer: Wurth Elektronik; Case/Size Code: 1408; Inductance: 200uH; Input Voltage: 5V (DC); Insulation Test Voltage: 2500V (AC); Output Voltage: 23V (DC); Switching Frequency: 200 - 600kHz; Turns Ratio: 1:4.67; Output Current: 0.18A; Type of Insulation: Supplementary; Voltage-Time: 15Vus; Manufacturer Part Number: 750316856; Category: Transformers For DC-DC Converter; Match Code: WE-PPTI; ComponentLink1Description: Website Link; ComponentLink1URL: https://www.we-online.com; ComponentLink2Description: Datasheet Link; ComponentLink2URL: https://www.we-online.com/components/products/datasheet/750316856; Mount: Surface Mount; Operating Temperature Min: -40degC; Operating Temperature Max: 125degC; Packaging: Tape and Reel; Length: 14.75mm; Width: 8.3mm; Height: 4.2mm
footprint WE-PPTI_1408
pins: 1, 2, 3, 4, 5, 6
text: N1; N3; N2; N4

## 750316886
designator T?  (value not drawn)
WE-PPTI Push-Pull Transformer, SMT, size 1408, 5Vin, 5Vout, 0.95Aout; Manufacturer: Wurth Elektronik; Case/Size Code: 1408; Inductance: 200uH; Input Voltage: 5V (DC); Insulation Test Voltage: 2500V (AC); Switching Frequency: 200 - 400kHz; Turns Ratio: 1:1.17; Output Current: 0.95A; Type of Insulation: Supplementary; Voltage-Time: 15Vus; Manufacturer Part Number: 750316886; Category: Transformers For DC-DC Converter; Match Code: WE-PPTI; ComponentLink1Description: Website Link; ComponentLink1URL: https://www.we-online.com; ComponentLink2Description: Datasheet Link; ComponentLink2URL: https://www.we-online.com/components/products/datasheet/750316886; Mount: Surface Mount; Operating Temperature Min: -40degC; Operating Temperature Max: 125degC; Packaging: Tape and Reel; Length: 14.75mm; Width: 8.3mm; Height: 4.2mm; Output Voltage: 5V (DC)
footprint WE-PPTI_1408
pins: 1, 2, 3, 4, 5, 6
text: N1; N3; N2; N4

## 750316887
designator T?  (value not drawn)
WE-PPTI Push-Pull Transformer, SMT, size 1408, 3.3Vin, 5Vout, 0.7Aout; Manufacturer: Wurth Elektronik; Case/Size Code: 1408; Inductance: 200uH; Input Voltage: 3.3V (DC); Insulation Test Voltage: 2500V (AC); Output Voltage: 5V (DC); Switching Frequency: 200 - 600kHz; Turns Ratio: 1:1.67; Output Current: 0.7A; Type of Insulation: Supplementary; Voltage-Time: 15Vus; Manufacturer Part Number: 750316887; Category: Transformers For DC-DC Converter; Match Code: WE-PPTI; ComponentLink1Description: Website Link; ComponentLink1URL: https://www.we-online.com; ComponentLink2Description: Datasheet Link; ComponentLink2URL: https://www.we-online.com/components/products/datasheet/750316887; Mount: Surface Mount; Operating Temperature Min: -40degC; Operating Temperature Max: 125degC; Packaging: Tape and Reel; Length: 14.75mm; Width: 8.3mm; Height: 4.2mm
footprint WE-PPTI_1408
pins: 1, 2, 3, 4, 5, 6
text: N1; N3; N2; N4

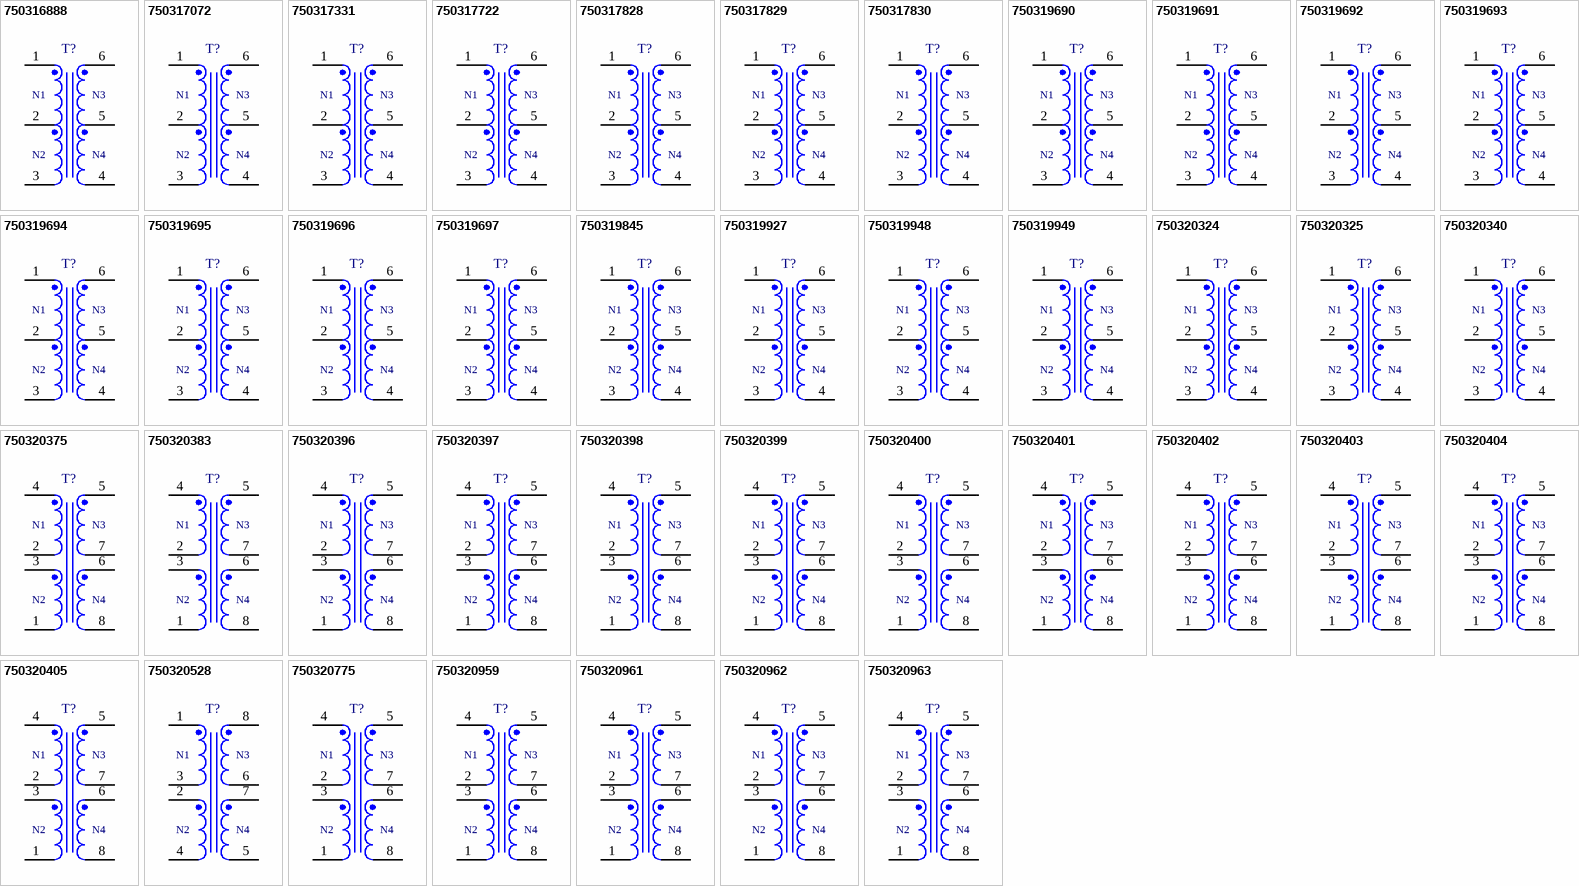
[diagram p1: symbols 750316888 to 750320963]

## 750316888
designator T?  (value not drawn)
WE-PPTI Push-Pull Transformer, SMT, size 1408, 5Vin, 3.3Vout, 1.1Aout; Manufacturer: Wurth Elektronik; Case/Size Code: 1408; Inductance: 200uH; Input Voltage: 5V (DC); Insulation Test Voltage: 2500V (AC); Output Voltage: 3.3V (DC); Switching Frequency: 200 - 600kHz; Turns Ratio: 1.2:1; Output Current: 1.1A; Type of Insulation: Supplementary; Voltage-Time: 15Vus; Manufacturer Part Number: 750316888; Category: Transformers For DC-DC Converter; Match Code: WE-PPTI; ComponentLink1Description: Website Link; ComponentLink1URL: https://www.we-online.com; ComponentLink2Description: Datasheet Link; ComponentLink2URL: https://www.we-online.com/components/products/datasheet/750316888; Mount: Surface Mount; Operating Temperature Min: -40degC; Operating Temperature Max: 125degC; Packaging: Tape and Reel; Length: 14.75mm; Width: 8.3mm; Height: 4.2mm
footprint WE-PPTI_1408
pins: 1, 2, 3, 4, 5, 6
text: N1; N3; N2; N4

## 750317072
designator T?  (value not drawn)
WE-PPTI Push-Pull Transformer, SMT, size 1408, 3.3Vin, 20Vout, 0.125Aout; Manufacturer: Wurth Elektronik; Case/Size Code: 1408; Inductance: 200uH; Input Voltage: 3.3V (DC); Insulation Test Voltage: 2500V (AC); Output Voltage: 20V (DC); Switching Frequency: 200 - 600kHz; Turns Ratio: 1:6.17; Output Current: 0.125A; Type of Insulation: Supplementary; Voltage-Time: 15Vus; Manufacturer Part Number: 750317072; Category: Transformers For DC-DC Converter; Match Code: WE-PPTI; ComponentLink1Description: Website Link; ComponentLink1URL: https://www.we-online.com; ComponentLink2Description: Datasheet Link; ComponentLink2URL: https://www.we-online.com/components/products/datasheet/750317072; Mount: Surface Mount; Operating Temperature Min: -40degC; Operating Temperature Max: 125degC; Packaging: Tape and Reel; Length: 14.75mm; Width: 8.3mm; Height: 4.2mm
footprint WE-PPTI_1408
pins: 1, 2, 3, 4, 5, 6
text: N1; N3; N2; N4

## 750317331
designator T?  (value not drawn)
WE-PPTI Push-Pull Transformer, SMT, size 1006, 24Vin, 12Vout, 0.5Aout; Manufacturer: Wurth Elektronik; Case/Size Code: 1006; Inductance: 4000uH; Input Voltage: 24V (DC); Insulation Test Voltage: 2500V (AC); Output Voltage: 12V (DC); Switching Frequency: 350 - 620kHz; Turns Ratio: 1.94:1; Output Current: 0.5A; Type of Insulation: Functional; Voltage-Time: 41Vus; Manufacturer Part Number: 750317331; Category: Transformers For DC-DC Converter; Match Code: WE-PPTI; ComponentLink1Description: Website Link; ComponentLink1URL: https://www.we-online.com; ComponentLink2Description: Datasheet Link; ComponentLink2URL: https://www.we-online.com/components/products/datasheet/750317331; Mount: Surface Mount; Operating Temperature Min: -40degC; Operating Temperature Max: 125degC; Packaging: Tape and Reel; Length: 10.2mm; Width: 6.73mm; Height: 4.67mm
footprint WE-PPTI_1006_L10.2W6.73H4.67
pins: 1, 2, 3, 4, 5, 6
text: N1; N3; N2; N4

## 750317722
designator T?  (value not drawn)
WE-PPTI Push-Pull Transformer, SMT, size 1006, 5Vin, 19Vout, 0.225Aout; Manufacturer: Wurth Elektronik; Case/Size Code: 1006; Inductance: 320uH; Input Voltage: 5V (DC); Insulation Test Voltage: 2500V (AC); Output Voltage: 19V (DC); Switching Frequency: 350 - 500kHz; Turns Ratio: 1:3.91; Output Current: 0.225A; Type of Insulation: Functional; Voltage-Time: 10Vus; Manufacturer Part Number: 750317722; Category: Transformers For DC-DC Converter; Match Code: WE-PPTI; ComponentLink1Description: Website Link; ComponentLink1URL: https://www.we-online.com; ComponentLink2Description: Datasheet Link; ComponentLink2URL: https://www.we-online.com/components/products/datasheet/750317722; Mount: Surface Mount; Operating Temperature Min: -40degC; Operating Temperature Max: 125degC; Packaging: Tape and Reel; Length: 10.2mm; Width: 6.73mm; Height: 4.19mm
footprint WE-PPTI_1006_L10.2W6.73H4.19
pins: 1, 2, 3, 4, 5, 6
text: N1; N3; N2; N4

## 750317828
designator T?  (value not drawn)
WE-PPTI Push-Pull Transformer, SMT, size 1006, 24Vin, 5Vout, 0.8Aout; Manufacturer: Wurth Elektronik; Case/Size Code: 1006; Inductance: 4000uH; Input Voltage: 24V (DC); Insulation Test Voltage: 2500V (AC); Output Voltage: 5V (DC); Switching Frequency: 350 - 620kHz; Turns Ratio: 4.43:1; Output Current: 0.8A; Type of Insulation: Functional; Voltage-Time: 41Vus; Manufacturer Part Number: 750317828; Category: Transformers For DC-DC Converter; Match Code: WE-PPTI; ComponentLink1Description: Website Link; ComponentLink1URL: https://www.we-online.com; ComponentLink2Description: Datasheet Link; ComponentLink2URL: https://www.we-online.com/components/products/datasheet/750317828; Mount: Surface Mount; Operating Temperature Min: -40degC; Operating Temperature Max: 125degC; Packaging: Tape and Reel; Length: 10.2mm; Width: 6.73mm; Height: 4.67mm
footprint WE-PPTI_1006_L10.2W6.73H4.67
pins: 1, 2, 3, 4, 5, 6
text: N1; N3; N2; N4

## 750317829
designator T?  (value not drawn)
WE-PPTI Push-Pull Transformer, SMT, size 1006, 12Vin, 12Vout, 0.3Aout; Manufacturer: Wurth Elektronik; Case/Size Code: 1006; Inductance: 1920uH; Input Voltage: 12V (DC); Insulation Test Voltage: 2500V (AC); Switching Frequency: 300 - 620kHz; Turns Ratio: 1:1.05; Output Current: 0.3A; Type of Insulation: Functional; Voltage-Time: 24Vus; Manufacturer Part Number: 750317829; Category: Transformers For DC-DC Converter; Match Code: WE-PPTI; ComponentLink1Description: Website Link; ComponentLink1URL: https://www.we-online.com; ComponentLink2Description: Datasheet Link; ComponentLink2URL: https://www.we-online.com/components/products/datasheet/750317829; Mount: Surface Mount; Operating Temperature Min: -40degC; Operating Temperature Max: 125degC; Packaging: Tape and Reel; Length: 10.2mm; Width: 6.73mm; Height: 4.67mm; Output Voltage: 12V (DC)
footprint WE-PPTI_1006_L10.2W6.73H4.67
pins: 1, 2, 3, 4, 5, 6
text: N1; N3; N2; N4

## 750317830
designator T?  (value not drawn)
WE-PPTI Push-Pull Transformer, SMT, size 1006, 12Vin, 5Vout, 0.7Aout; Manufacturer: Wurth Elektronik; Case/Size Code: 1006; Inductance: 1920uH; Input Voltage: 12V (DC); Insulation Test Voltage: 2500V (AC); Output Voltage: 5V (DC); Switching Frequency: 300 - 620kHz; Turns Ratio: 2.2:1; Output Current: 0.7A; Type of Insulation: Functional; Voltage-Time: 24Vus; Manufacturer Part Number: 750317830; Category: Transformers For DC-DC Converter; Match Code: WE-PPTI; ComponentLink1Description: Website Link; ComponentLink1URL: https://www.we-online.com; ComponentLink2Description: Datasheet Link; ComponentLink2URL: https://www.we-online.com/components/products/datasheet/750317830; Mount: Surface Mount; Operating Temperature Min: -40degC; Operating Temperature Max: 125degC; Packaging: Tape and Reel; Length: 10.2mm; Width: 6.73mm; Height: 4.67mm
footprint WE-PPTI_1006_L10.2W6.73H4.67
pins: 1, 2, 3, 4, 5, 6
text: N1; N3; N2; N4

## 750319690
designator T?  (value not drawn)
WE-PPTI Push-Pull Transformer, SMT, size 1308, 12Vin, 5Vout, 0.7Aout; Manufacturer: Wurth Elektronik; Case/Size Code: 1308; Inductance: 100uH; Input Voltage: 12V (DC); Insulation Test Voltage: 2500V (AC); Output Voltage: 5V (DC); Switching Frequency: 400 - 600kHz; Turns Ratio: 1.75:1; Output Current: 0.7A; Type of Insulation: Functional; Voltage-Time: 18Vus; Manufacturer Part Number: 750319690; Category: Transformers For DC-DC Converter; Match Code: WE-PPTI; ComponentLink1Description: Website Link; ComponentLink1URL: https://www.we-online.com; ComponentLink2Description: Datasheet Link; ComponentLink2URL: https://www.we-online.com/components/products/datasheet/750319690; Mount: Surface Mount; Operating Temperature Min: -40degC; Operating Temperature Max: 125degC; Packaging: Tape and Reel; Length: 13.12mm; Width: 8.5mm; Height: 5.5mm
footprint WE-PPTI_1308
pins: 1, 2, 3, 4, 5, 6
text: N1; N3; N2; N4

## 750319691
designator T?  (value not drawn)
WE-PPTI Push-Pull Transformer, SMT, size 1308, 12Vin, 12Vout, 0.5Aout; Manufacturer: Wurth Elektronik; Case/Size Code: 1308; Inductance: 100uH; Input Voltage: 12V (DC); Insulation Test Voltage: 2500V (AC); Switching Frequency: 400 - 600kHz; Turns Ratio: 1:1.14; Output Current: 0.5A; Type of Insulation: Functional; Voltage-Time: 18Vus; Manufacturer Part Number: 750319691; Category: Transformers For DC-DC Converter; Match Code: WE-PPTI; ComponentLink1Description: Website Link; ComponentLink1URL: https://www.we-online.com; ComponentLink2Description: Datasheet Link; ComponentLink2URL: https://www.we-online.com/components/products/datasheet/750319691; Mount: Surface Mount; Operating Temperature Min: -40degC; Operating Temperature Max: 125degC; Packaging: Tape and Reel; Length: 13.12mm; Width: 8.5mm; Height: 5.5mm; Output Voltage: 12V (DC)
footprint WE-PPTI_1308
pins: 1, 2, 3, 4, 5, 6
text: N1; N3; N2; N4

## 750319692
designator T?  (value not drawn)
WE-PPTI Push-Pull Transformer, SMT, size 1308, 12Vin, 15Vout, 0.4Aout; Manufacturer: Wurth Elektronik; Case/Size Code: 1308; Inductance: 260uH; Input Voltage: 12V (DC); Insulation Test Voltage: 2500V (AC); Output Voltage: 15V (DC); Switching Frequency: 400 - 600kHz; Turns Ratio: 1:1.33; Output Current: 0.4A; Type of Insulation: Functional; Voltage-Time: 23Vus; Manufacturer Part Number: 750319692; Category: Transformers For DC-DC Converter; Match Code: WE-PPTI; ComponentLink1Description: Website Link; ComponentLink1URL: https://www.we-online.com; ComponentLink2Description: Datasheet Link; ComponentLink2URL: https://www.we-online.com/components/products/datasheet/750319692; Mount: Surface Mount; Operating Temperature Min: -40degC; Operating Temperature Max: 125degC; Packaging: Tape and Reel; Length: 13.12mm; Width: 8.5mm; Height: 5.5mm
footprint WE-PPTI_1308
pins: 1, 2, 3, 4, 5, 6
text: N1; N3; N2; N4

## 750319693
designator T?  (value not drawn)
WE-PPTI Push-Pull Transformer, SMT, size 1308, 12Vin, 24Vout, 0.4Aout; Manufacturer: Wurth Elektronik; Case/Size Code: 1308; Inductance: 100uH; Input Voltage: 12V (DC); Insulation Test Voltage: 2500V (AC); Output Voltage: 24V (DC); Switching Frequency: 400 - 600kHz; Turns Ratio: 1:2.29; Output Current: 0.4A; Type of Insulation: Functional; Voltage-Time: 18Vus; Manufacturer Part Number: 750319693; Category: Transformers For DC-DC Converter; Match Code: WE-PPTI; ComponentLink1Description: Website Link; ComponentLink1URL: https://www.we-online.com; ComponentLink2Description: Datasheet Link; ComponentLink2URL: https://www.we-online.com/components/products/datasheet/750319693; Mount: Surface Mount; Operating Temperature Min: -40degC; Operating Temperature Max: 125degC; Packaging: Tape and Reel; Length: 13.12mm; Width: 8.5mm; Height: 5.5mm
footprint WE-PPTI_1308
pins: 1, 2, 3, 4, 5, 6
text: N1; N3; N2; N4

## 750319694
designator T?  (value not drawn)
WE-PPTI Push-Pull Transformer, SMT, size 1308, 24Vin, 5Vout, 0.75Aout; Manufacturer: Wurth Elektronik; Case/Size Code: 1308; Inductance: 600uH; Input Voltage: 24V (DC); Insulation Test Voltage: 2500V (AC); Output Voltage: 5V (DC); Switching Frequency: 400 - 600kHz; Turns Ratio: 4:1; Output Current: 0.75A; Type of Insulation: Functional; Voltage-Time: 40Vus; Manufacturer Part Number: 750319694; Category: Transformers For DC-DC Converter; Match Code: WE-PPTI; ComponentLink1Description: Website Link; ComponentLink1URL: https://www.we-online.com; ComponentLink2Description: Datasheet Link; ComponentLink2URL: https://www.we-online.com/components/products/datasheet/750319694; Mount: Surface Mount; Operating Temperature Min: -40degC; Operating Temperature Max: 125degC; Packaging: Tape and Reel; Length: 13.12mm; Width: 8.5mm; Height: 5.5mm
footprint WE-PPTI_1308
pins: 1, 2, 3, 4, 5, 6
text: N1; N3; N2; N4